# EAGLE library part TMP100 (library termosensor)
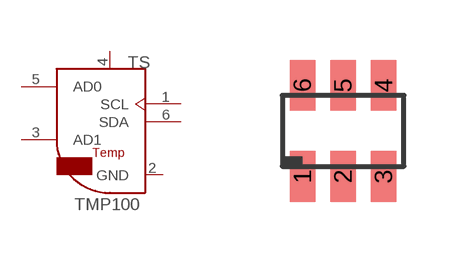
[diagram p0: symbol with the pads of SOT23-6; footprint SOT23-6]

Designator prefix TS

## TMP100  [SOT23-6]
1  SCL
2  GND  pwr
3  AD1  in
4  UCC  pwr
5  AD0  in
6  SDA

## Footprint SOT23-6 (pad centres in mm)
SMD 3x1,75mm /6pin
smd 0.635 x 1.27: 1 1.27,-0.254; 2 2.286,-0.254; 3 3.302,-0.254; 4 3.302,2.032; 5 2.286,2.032; 6 1.27,2.032